# Altium schematic symbol library SCH - PASSIVES - INDUCTOR.SCHLIB: 1 symbol
Pins are listed as number, name and electrical type; pins without a type are passive.

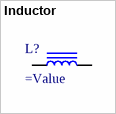
[diagram p0: symbol Inductor]

## Inductor
designator L?
SMT Inductor
footprint TDK SLF10145 (Precision Wire Wound Inductor, 2-Leads, Body 10.10x10.10mm, IPC Medium Density)
footprint TDK SLF12575 (Precision Wire Wound Inductor, 2-Leads, Body 12.50x12.50mm, IPC Medium Density)
pins: 1, 2